# EAGLE library part M07 (library NBitWonder)
A 1x07 header footprint. Naming convention adapted from Sparkfun library
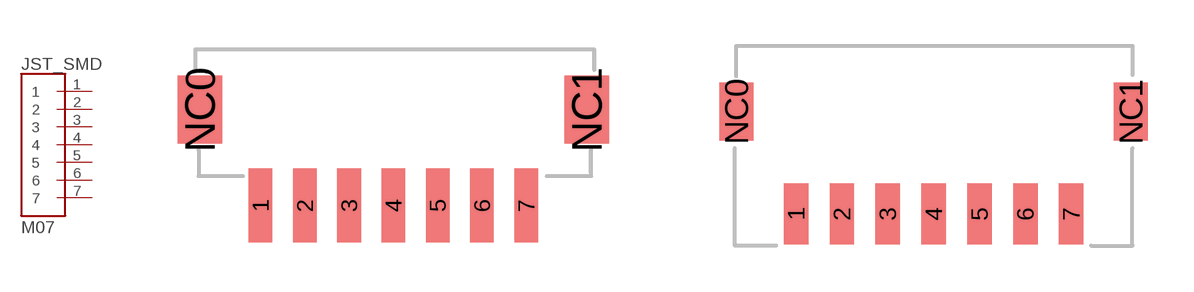
[diagram p23: symbol with the pads of JST_ZH_SM4_TE_7; footprints JST_ZH_SM4_TE_7, JST_ZH_SM4_SE_7]

Designator prefix JST_SMD

## M07JST_SE, M07JST_TE  [JST_ZH_SM4_TE_7]
1  1
2  2
3  3
4  4
5  5
6  6
7  7

## M07SE  [JST_ZH_SM4_SE_7]
Pads as for JST_ZH_SM4_TE_7

## Footprint JST_ZH_SM4_TE_7 (pad centres in mm)
smd 0.8 x 2.5: 1 -4.5,-3; 2 -3,-3; 3 -1.5,-3; 4 0,-3; 5 1.5,-3; 6 3,-3; 7 4.5,-3
smd 1.5 x 2.3: NC0 -6.55,0.25; NC1 6.55,0.25

## Footprint JST_ZH_SM4_SE_7 (pad centres in mm)
smd 0.8 x 2: 1 -4.5,-1; 2 -3,-1; 3 -1.5,-1; 4 0,-1; 5 1.5,-1; 6 3,-1; 7 4.5,-1
smd 1.1 x 1.9: NC0 -6.45,2.35; NC1 6.45,2.35